# Altium footprint library TSOT-23_LTC.PcbLib: 1 footprints
Each footprint in its own frame and in the unit in brackets; x right, y up, seen from the top. Pads: shape width x height; smd on the part's side, far side on the other; paste and mask are expansions set on the pad; w line width, h text height; cw(c..) or ccw(c..) is an arc to the next point about the centre after c.
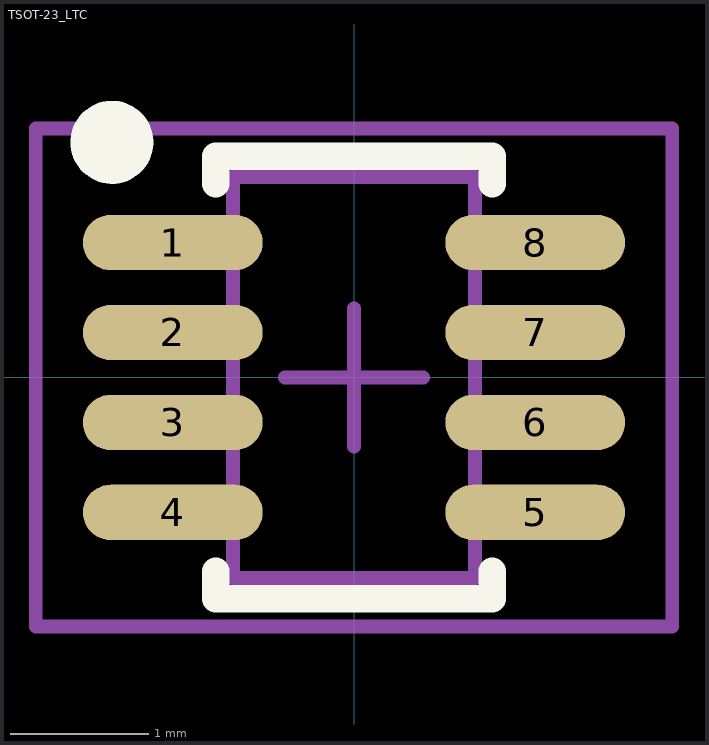
[diagram p0: the footprint, top view; thin cyan lines are the x and y axes]

## TSOT-23_LTC [mm] "TSOP, 8-Leads, Body 2.9x1.8mm (max), Pitch 0.65mm, IPC Medium Density"
height 1
pads (8):
  oval 1.3x0.4 smd: 1(-1.31,0.975) 2(-1.31,0.325) 3(-1.31,-0.325) 4(-1.31,-0.975) 5(1.31,-0.975) 6(1.31,-0.325) 7(1.31,0.325) 8(1.31,0.975)
Top Overlay:
  circle w0.3: c-1.75,1.7 r0.15
  lines w0.2: -1,-1.4 -1,-1.6 1,-1.6 1,-1.4 ; -1,1.4 -1,1.6 1,1.6 1,1.4
Mechanical 13:
  lines w0.1: -0.875,-1.45 -0.875,1.45 0.875,1.45 0.875,-1.45 -0.875,-1.45
Mechanical 15:
  lines w0.1: -0.5,0 0.5,0 ; 0,-0.5 0,0.5 ; -2.3,-1.8 -2.3,1.8 2.3,1.8 2.3,-1.8 -2.3,-1.8
3D body: height 0.9, standoff 0, extent -1.45,-1.45 1.35,1.45